# Altium footprint library Connectors Rectangular 2.54 C-Grid III.PcbLib: 13 footprints
Each footprint in its own frame and in the unit in brackets; x right, y up, seen from the top. Pads: shape width x height; smd on the part's side, far side on the other; paste and mask are expansions set on the pad; w line width, h text height; cw(c..) or ccw(c..) is an arc to the next point about the centre after c.
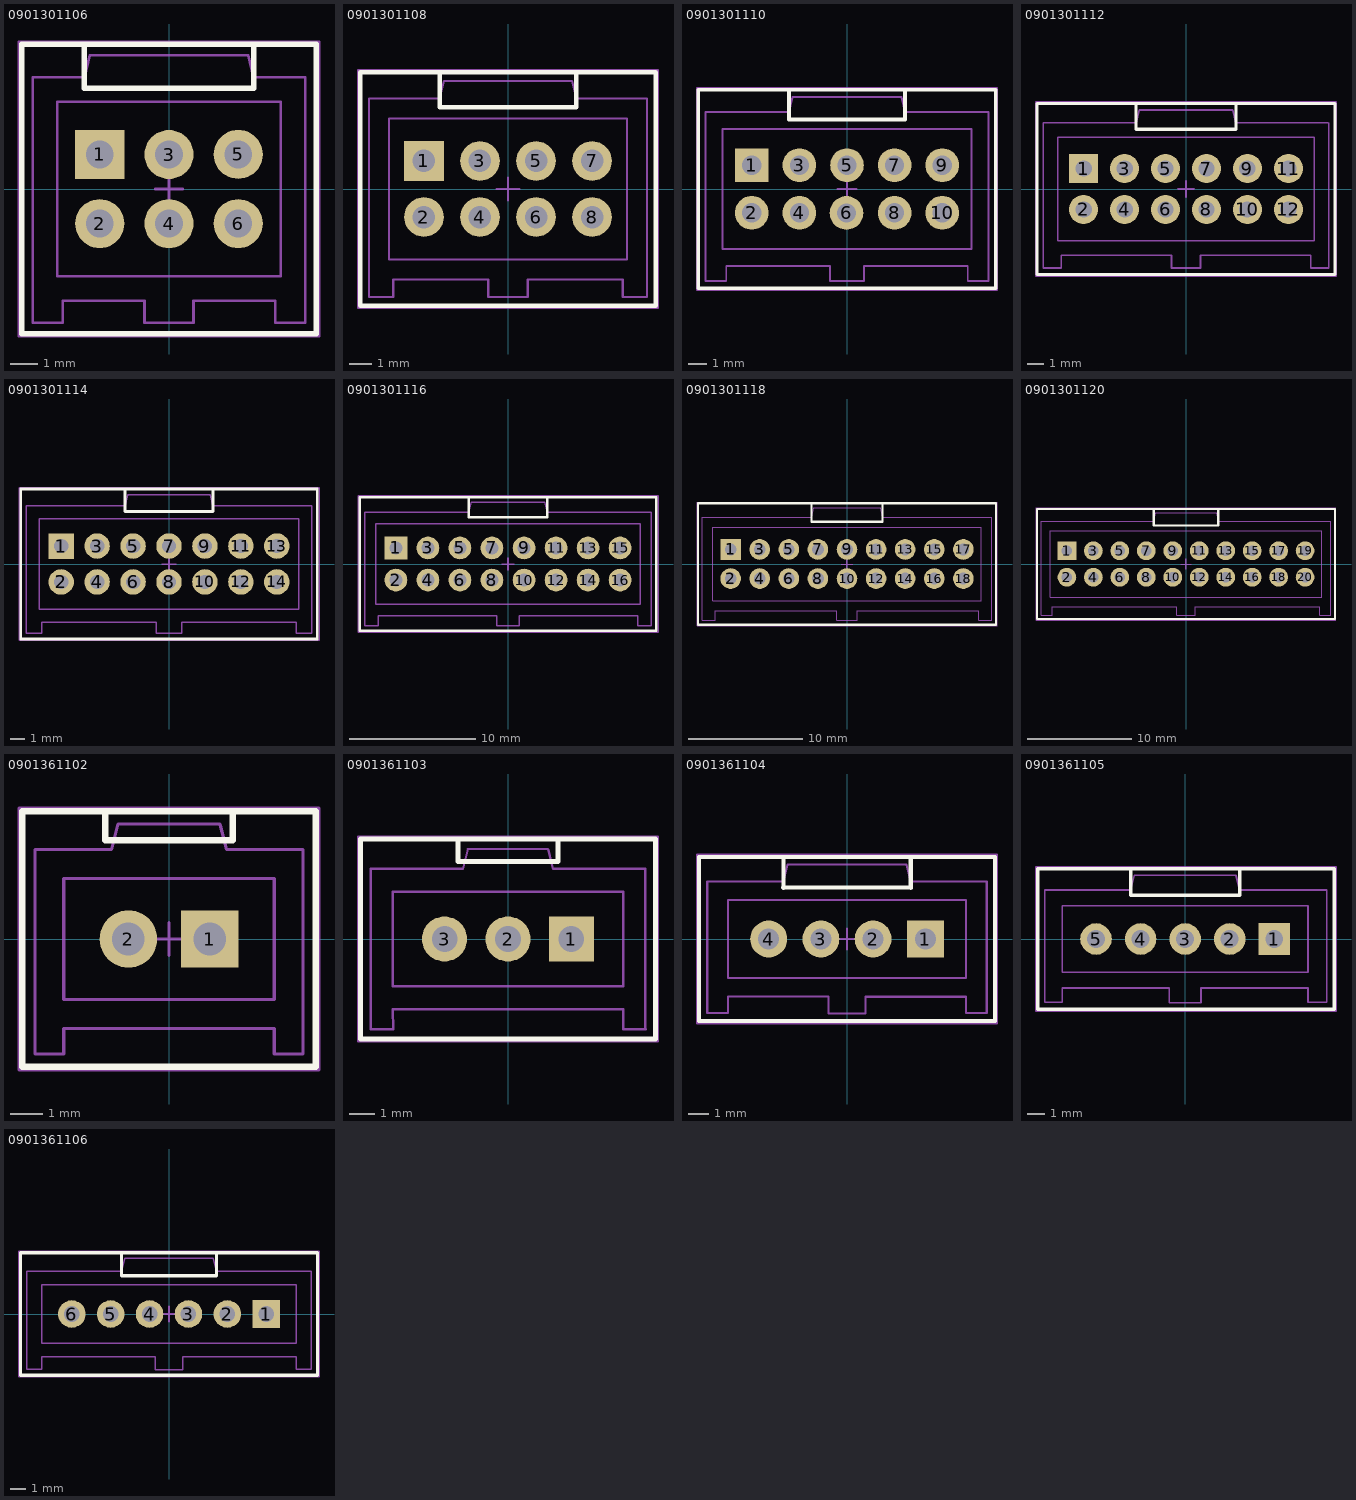
[diagram p0: the footprints below, top view; thin cyan lines are the x and y axes]

## 0901301106 [mm]
height 10.9
pads (6):
  rect 1.8x1.8 hole 1.02: 1(-2.54,1.27)
  round 1.8 hole 1.02: 2(-2.54,-1.27) 3(0,1.264) 4(0,-1.27) 5(2.54,1.27) 6(2.54,-1.27)
Top Overlay:
  lines w0.2: -3.1,5.3 -3.1,3.7 3.1,3.7 3.1,5.3 ; -5.4,-5.3 5.4,-5.3 5.4,5.3 -5.4,5.3 -5.4,-5.3
Top Package:
  circle w0.1: c0,-1.27 r0.4
  circle w0.1: c0,1.27 r0.4
  circle w0.1: c-2.54,-1.27 r0.4
  circle w0.1: c-2.54,1.27 r0.4
  circle w0.1: c2.54,1.27 r0.4
  circle w0.1: c2.54,-1.27 r0.4
  lines w0.1: -5,-4.9 -5,4.1 -3.1,4.1 -2.9,4.9 2.9,4.9 3.1,4.1 5,4.1 5,-4.9 3.9,-4.9 3.9,-4.1 0.9,-4.1 0.9,-4.9 -0.9,-4.9 -0.9,-4.1 -3.9,-4.1 -3.9,-4.9 -5,-4.9 ; -4.1,-3.2 4.1,-3.2 4.1,3.2 -4.1,3.2 -4.1,-3.2
Top Comment:
  text ".Comment" at -3.548,5.885 h2.5
Top Designator:
  text ".Designator" at -4.303,6.117 h2.5
Top Border:
  lines w0.1: -0.5,0 0.5,0 ; 0,-0.5 0,0.5 ; -5.5,-5.4 -5.5,5.4 5.5,5.4 5.5,-5.4 -5.5,-5.4 ; -0.508,0 0.508,0 -0.508,0 ; 0,-0.508 0,0.508 0,-0.508
3D body "901301106.stp": height 11, standoff -2.8, extent -4.98,-4.875 4.98,4.875

## 0901301108 [mm]
height 10.9
pads (8):
  rect 1.8x1.8 hole 1.02: 1(-3.81,1.27)
  round 1.8 hole 1.02: 2(-3.81,-1.27) 3(-1.27,1.27) 4(-1.27,-1.27) 5(1.27,1.27) 6(1.27,-1.27) 7(3.81,1.27) 8(3.81,-1.27)
Top Overlay:
  lines w0.2: -3.1,5.3 -3.1,3.7 3.1,3.7 3.1,5.3 ; -6.7,-5.3 6.7,-5.3 6.7,5.3 -6.7,5.3 -6.7,-5.3
Top Package:
  circle w0.1: c-1.27,-1.27 r0.4
  circle w0.1: c-1.27,1.27 r0.4
  circle w0.1: c-3.81,-1.27 r0.4
  circle w0.1: c1.27,1.27 r0.4
  circle w0.1: c1.27,-1.27 r0.4
  circle w0.1: c3.81,-1.27 r0.4
  circle w0.1: c3.81,1.27 r0.4
  circle w0.1: c-3.81,1.27 r0.4
  lines w0.1: -6.3,-4.9 -6.3,4.1 -3.1,4.1 -2.9,4.9 2.9,4.9 3.1,4.1 6.3,4.1 6.3,-4.9 5.2,-4.9 5.2,-4.1 0.9,-4.1 0.9,-4.9 -0.9,-4.9 -0.9,-4.1 -5.2,-4.1 -5.2,-4.9 -6.3,-4.9 ; -5.4,-3.2 5.4,-3.2 5.4,3.2 -5.4,3.2 -5.4,-3.2
Top Comment:
  text ".Comment" at -3.548,5.885 h2.5
Top Designator:
  text ".Designator" at -4.303,6.117 h2.5
Top Border:
  lines w0.1: -0.5,0 0.5,0 ; 0,-0.5 0,0.5 ; -6.8,-5.4 -6.8,5.4 6.8,5.4 6.8,-5.4 -6.8,-5.4 ; -0.508,0 0.508,0 -0.508,0 ; 0,-0.508 0,0.508 0,-0.508
3D body "901301108.stp": height 11, standoff -2.8, extent -6.25,-4.875 6.25,4.875

## 0901301110 [mm]
height 10.9
pads (10):
  rect 1.8x1.8 hole 1.02: 1(-5.08,1.27)
  round 1.8 hole 1.02: 2(-5.08,-1.27) 3(-2.54,1.27) 4(-2.54,-1.27) 5(0,1.27) 6(-0.026,-1.276) 7(2.54,1.27) 8(2.54,-1.27) 9(5.08,1.27) 10(5.08,-1.27)
Top Overlay:
  lines w0.2: -3.1,5.3 -3.1,3.7 3.1,3.7 3.1,5.3 ; 7.9,-5.3 -7.94,-5.3 -7.94,5.3 7.94,5.3 7.94,-5.3
Top Package:
  circle w0.1: c5.08,1.27 r0.4
  circle w0.1: c5.08,-1.27 r0.4
  circle w0.1: c2.54,-1.27 r0.4
  circle w0.1: c2.54,1.27 r0.4
  circle w0.1: c-2.54,1.27 r0.4
  circle w0.1: c-2.54,-1.27 r0.4
  circle w0.1: c0,1.27 r0.4
  circle w0.1: c0,-1.27 r0.4
  circle w0.1: c-5.08,-1.27 r0.4
  circle w0.1: c-5.08,1.27 r0.4
  lines w0.1: 7.5,4.1 3.1,4.1 2.9,4.9 -2.9,4.9 -3.1,4.1 -7.54,4.1 -7.54,-4.9 -6.44,-4.9 -6.44,-4.1 -0.9,-4.1 -0.9,-4.9 0.9,-4.9 0.9,-4.1 6.44,-4.1 6.44,-4.9 7.54,-4.9 7.54,4.1 ; -6.64,-3.2 -6.64,3.2 6.64,3.2 6.64,-3.2 -6.64,-3.2
Top Comment:
  text ".Comment" at -3.548,5.885 h2.5
Top Designator:
  text ".Designator" at -4.303,6.117 h2.5
Top Border:
  lines w0.1: -0.5,0 0.5,0 ; 0,-0.5 0,0.5 ; -8,-5.4 8,-5.4 8,5.4 -8,5.4 -8,-5.4 ; -0.508,0 0.508,0 -0.508,0 ; 0,-0.508 0,0.508 0,-0.508
3D body "901301110.stp": height 11, standoff -2.8, extent -7.52,-4.875 7.52,4.875

## 0901301112 [mm]
height 10.9
pads (12):
  rect 1.8x1.8 hole 1.02: 1(-6.35,1.27)
  round 1.8 hole 1.02: 2(-6.35,-1.27) 3(-3.81,1.27) 4(-3.81,-1.27) 5(-1.27,1.27) 6(-1.27,-1.27) 7(1.27,1.27) 8(1.27,-1.27) 9(3.81,1.27) 10(3.81,-1.27) 11(6.35,1.27) 12(6.35,-1.27)
Top Overlay:
  lines w0.2: -3.1,5.3 -3.1,3.7 3.1,3.7 3.1,5.3 ; -9.24,-5.3 -9.24,5.3 9.24,5.3 9.24,-5.3 -9.24,-5.3
Top Package:
  circle w0.1: c1.27,-1.27 r0.4
  circle w0.1: c1.27,1.27 r0.4
  circle w0.1: c-1.27,-1.27 r0.4
  circle w0.1: c-1.27,1.27 r0.4
  circle w0.1: c3.81,1.27 r0.4
  circle w0.1: c3.81,-1.27 r0.4
  circle w0.1: c6.35,-1.27 r0.4
  circle w0.1: c6.35,1.27 r0.4
  circle w0.1: c-6.35,-1.27 r0.4
  circle w0.1: c-6.35,1.27 r0.4
  circle w0.1: c-3.81,1.27 r0.4
  circle w0.1: c-3.81,-1.27 r0.4
  lines w0.1: -7.74,-4.1 -7.74,-4.9 -8.84,-4.9 -8.84,4.1 -3.1,4.1 -2.9,4.9 2.9,4.9 3.1,4.1 8.8,4.1 ; -7.7,-4.1 -0.9,-4.1 -0.9,-4.9 0.9,-4.9 0.9,-4.1 7.74,-4.1 7.74,-4.9 8.84,-4.9 8.84,4.1 ; -7.94,-3.2 -7.94,3.2 7.94,3.2 7.94,-3.2 -7.94,-3.2
Top Comment:
  text ".Comment" at -3.548,5.885 h2.5
Top Designator:
  text ".Designator" at -4.303,6.117 h2.5
Top Border:
  lines w0.1: -0.5,0 0.5,0 ; 0,-0.5 0,0.5 ; -9.3,-5.4 -9.3,5.4 9.3,5.4 9.3,-5.4 -9.3,-5.4 ; -0.508,0 0.508,0 -0.508,0 ; 0,-0.508 0,0.508 0,-0.508
3D body "901301112.stp": height 11, standoff -2.8, extent -8.79,-4.875 8.79,4.875

## 0901301114 [mm]
height 10.9
pads (14):
  rect 1.8x1.8 hole 1.02: 1(-7.62,1.27)
  round 1.8 hole 1.02: 2(-7.62,-1.27) 3(-5.08,1.27) 4(-5.08,-1.27) 5(-2.54,1.27) 6(-2.54,-1.27) 7(0,1.27) 8(0,-1.27) 9(2.54,1.27) 10(2.54,-1.27) 11(5.08,1.27) 12(5.08,-1.27) 13(7.62,1.27) 14(7.62,-1.27)
Top Overlay:
  lines w0.2: -3.1,5.3 -3.1,3.7 3.1,3.7 3.1,5.3 ; -10.48,-5.3 -10.48,5.3 10.48,5.3 10.48,-5.3 -10.48,-5.3
Top Package:
  circle w0.1: c-7.62,-1.27 r0.4
  circle w0.1: c-7.62,1.27 r0.4
  circle w0.1: c-5.08,1.27 r0.4
  circle w0.1: c-5.08,-1.27 r0.4
  circle w0.1: c0,-1.27 r0.4
  circle w0.1: c0,1.27 r0.4
  circle w0.1: c-2.54,-1.27 r0.4
  circle w0.1: c-2.54,1.27 r0.4
  circle w0.1: c2.54,1.27 r0.4
  circle w0.1: c2.54,-1.27 r0.4
  circle w0.1: c7.62,-1.27 r0.4
  circle w0.1: c7.62,1.27 r0.4
  circle w0.1: c5.08,-1.27 r0.4
  circle w0.1: c5.08,1.27 r0.4
  lines w0.1: -10.08,-4.9 -8.98,-4.9 -8.98,-4.1 -0.9,-4.1 -0.9,-4.9 0.9,-4.9 0.9,-4.1 8.98,-4.1 8.98,-4.9 10.08,-4.9 10.08,4.1 3.1,4.1 2.9,4.9 -2.9,4.9 -3.1,4.1 -10.08,4.1 -10.08,-4.9 ; -9.18,-3.2 -9.18,3.2 9.18,3.2 9.18,-3.2 -9.18,-3.2
Top Comment:
  text ".Comment" at -3.548,5.885 h2.5
Top Designator:
  text ".Designator" at -4.303,6.117 h2.5
Top Border:
  lines w0.1: -0.5,0 0.5,0 ; 0,-0.5 0,0.5 ; -10.6,-5.4 -10.6,5.4 10.6,5.4 10.6,-5.4 -10.6,-5.4 ; -0.508,0 0.508,0 -0.508,0 ; 0,-0.508 0,0.508 0,-0.508
3D body "901301114.stp": height 11, standoff -2.8, extent -10.06,-4.875 10.06,4.875

## 0901301116 [mm]
height 10.9
pads (16):
  rect 1.8x1.8 hole 1.02: 1(-8.89,1.27)
  round 1.8 hole 1.02: 2(-8.89,-1.27) 3(-6.35,1.27) 4(-6.35,-1.27) 5(-3.81,1.27) 6(-3.81,-1.27) 7(-1.27,1.27) 8(-1.27,-1.27) 9(1.27,1.27) 10(1.27,-1.27) 11(3.81,1.27) 12(3.81,-1.27) 13(6.35,1.27) 14(6.35,-1.27) 15(8.89,1.27) 16(8.89,-1.27)
Top Overlay:
  lines w0.2: -3.1,5.3 -3.1,3.7 3.1,3.7 3.1,5.3 ; -11.78,-5.3 11.78,-5.3 11.78,5.3 -11.78,5.3 -11.78,-5.3
Top Package:
  circle w0.1: c8.89,1.27 r0.4
  circle w0.1: c8.89,-1.27 r0.4
  circle w0.1: c-3.81,-1.27 r0.4
  circle w0.1: c-3.81,1.27 r0.4
  circle w0.1: c-8.89,1.27 r0.4
  circle w0.1: c-8.89,-1.27 r0.4
  circle w0.1: c-6.35,1.27 r0.4
  circle w0.1: c-6.35,-1.27 r0.4
  circle w0.1: c6.35,1.27 r0.4
  circle w0.1: c6.35,-1.27 r0.4
  circle w0.1: c3.81,-1.27 r0.4
  circle w0.1: c3.81,1.27 r0.4
  circle w0.1: c-1.27,1.27 r0.4
  circle w0.1: c-1.27,-1.27 r0.4
  circle w0.1: c1.27,1.27 r0.4
  circle w0.1: c1.27,-1.27 r0.4
  lines w0.1: -11.38,-4.9 -10.28,-4.9 -10.28,-4.1 -0.9,-4.1 -0.9,-4.9 0.9,-4.9 0.9,-4.1 10.28,-4.1 10.28,-4.9 11.38,-4.9 11.38,4.1 3.1,4.1 2.9,4.9 -2.9,4.9 -3.1,4.1 -11.38,4.1 -11.38,-4.9 ; -10.48,-3.2 10.48,-3.2 10.48,3.2 -10.48,3.2 -10.48,-3.2
Top Comment:
  text ".Comment" at -3.548,5.885 h2.5
Top Designator:
  text ".Designator" at -4.303,6.117 h2.5
Top Border:
  lines w0.1: -0.5,0 0.5,0 ; 0,-0.5 0,0.5 ; -11.9,-5.4 11.9,-5.4 11.9,5.4 -11.9,5.4 -11.9,-5.4 ; -0.508,0 0.508,0 -0.508,0 ; 0,-0.508 0,0.508 0,-0.508
3D body "901301116.stp": height 11, standoff -2.8, extent -11.33,-4.875 11.33,4.875

## 0901301118 [mm]
height 10.9
pads (18):
  rect 1.8x1.8 hole 1.02: 1(-10.16,1.27)
  round 1.8 hole 1.02: 2(-10.16,-1.27) 3(-7.62,1.27) 4(-7.62,-1.27) 5(-5.08,1.27) 6(-5.08,-1.27) 7(-2.54,1.27) 8(-2.54,-1.27) 9(0,1.27) 10(0,-1.27) 11(2.54,1.27) 12(2.54,-1.27) 13(5.08,1.27) 14(5.08,-1.27) 15(7.62,1.27) 16(7.62,-1.27) 17(10.16,1.27) 18(10.16,-1.27)
Top Overlay:
  lines w0.2: -13.02,-5.3 -13.02,5.3 ; -13,-5.3 13,-5.3 ; -13,5.3 13,5.3 ; -3.1,5.3 -3.1,3.7 3.1,3.7 3.1,5.3 ; 13.02,-5.3 13.02,5.3
Top Package:
  circle w0.1: c-7.62,-1.27 r0.4
  circle w0.1: c-7.62,1.27 r0.4
  circle w0.1: c-10.16,-1.27 r0.4
  circle w0.1: c-10.16,1.27 r0.4
  circle w0.1: c-5.08,1.27 r0.4
  circle w0.1: c-5.08,-1.27 r0.4
  circle w0.1: c0,-1.27 r0.4
  circle w0.1: c0,1.27 r0.4
  circle w0.1: c-2.54,-1.27 r0.4
  circle w0.1: c-2.54,1.27 r0.4
  circle w0.1: c2.54,1.27 r0.4
  circle w0.1: c2.54,-1.27 r0.4
  circle w0.1: c7.62,-1.27 r0.4
  circle w0.1: c7.62,1.27 r0.4
  circle w0.1: c5.08,-1.27 r0.4
  circle w0.1: c5.08,1.27 r0.4
  circle w0.1: c10.16,1.27 r0.4
  circle w0.1: c10.16,-1.27 r0.4
  lines w0.1: -11.72,3.2 -11.72,-3.2 11.72,-3.2 11.72,3.2 -11.7,3.2 ; -12.62,-4.9 -12.62,4.1 -3.1,4.1 -2.9,4.9 2.9,4.9 3.1,4.1 12.62,4.1 12.62,-4.9 11.52,-4.9 11.52,-4.1 0.9,-4.1 0.9,-4.9 -0.9,-4.9 -0.9,-4.1 -11.52,-4.1 -11.52,-4.9 -12.62,-4.9
Top Comment:
  text ".Comment" at -3.548,5.885 h2.5
Top Designator:
  text ".Designator" at -4.303,6.117 h2.5
Top Border:
  lines w0.1: -0.5,0 0.5,0 ; 0,-0.5 0,0.5 ; -13.1,-5.4 -13.1,5.4 13.1,5.4 13.1,-5.4 -13.1,-5.4 ; -0.508,0 0.508,0 -0.508,0 ; 0,-0.508 0,0.508 0,-0.508
3D body "901301118.stp": height 11, standoff -2.8, extent -12.6,-4.875 12.6,4.875

## 0901301120 [mm]
height 10.9
pads (20):
  rect 1.8x1.8 hole 1.02: 1(-11.43,1.27)
  round 1.8 hole 1.02: 2(-11.43,-1.27) 3(-8.89,1.27) 4(-8.89,-1.27) 5(-6.35,1.27) 6(-6.35,-1.27) 7(-3.81,1.27) 8(-3.81,-1.27) 9(-1.27,1.27) 10(-1.27,-1.27) 11(1.27,1.27) 12(1.27,-1.27) 13(3.81,1.27) 14(3.81,-1.27) 15(6.35,1.27) 16(6.35,-1.27) 17(8.89,1.27) 18(8.89,-1.27) 19(11.43,1.27) 20(11.43,-1.27)
Top Overlay:
  lines w0.2: -14.32,-5.3 -14.32,5.3 ; -14.3,-5.3 14.32,-5.3 14.32,5.3 ; -14.3,5.3 14.3,5.3 ; -3.1,5.3 -3.1,3.7 3.1,3.7 3.1,5.3
Top Package:
  circle w0.1: c11.43,-1.27 r0.4
  circle w0.1: c11.43,1.27 r0.4
  circle w0.1: c6.35,1.27 r0.4
  circle w0.1: c6.35,-1.27 r0.4
  circle w0.1: c8.89,1.27 r0.4
  circle w0.1: c8.89,-1.27 r0.4
  circle w0.1: c-6.35,-1.27 r0.4
  circle w0.1: c-6.35,1.27 r0.4
  circle w0.1: c-11.43,1.27 r0.4
  circle w0.1: c-11.43,-1.27 r0.4
  circle w0.1: c-8.89,1.27 r0.4
  circle w0.1: c-8.89,-1.27 r0.4
  circle w0.1: c3.81,1.27 r0.4
  circle w0.1: c3.81,-1.27 r0.4
  circle w0.1: c1.27,-1.27 r0.4
  circle w0.1: c1.27,1.27 r0.4
  circle w0.1: c-3.81,1.27 r0.4
  circle w0.1: c-3.81,-1.27 r0.4
  circle w0.1: c-1.27,1.27 r0.4
  circle w0.1: c-1.27,-1.27 r0.4
  lines w0.1: -13.92,-4.9 -13.92,4.1 -3.1,4.1 -2.9,4.9 2.9,4.9 3.1,4.1 13.92,4.1 13.92,-4.9 12.82,-4.9 12.82,-4.1 0.9,-4.1 0.9,-4.9 -0.9,-4.9 -0.9,-4.1 -12.82,-4.1 -12.82,-4.9 -13.92,-4.9 ; -13.02,-3.2 13.02,-3.2 13.02,3.2 -13.02,3.2 -13.02,-3.2
Top Comment:
  text ".Comment" at -3.548,5.885 h2.5
Top Designator:
  text ".Designator" at -4.303,6.117 h2.5
Top Border:
  lines w0.1: -0.5,0 0.5,0 ; 0,-0.5 0,0.5 ; -14.4,-5.4 14.4,-5.4 14.4,5.4 -14.4,5.4 -14.4,-5.4 ; -0.508,0 0.508,0 -0.508,0 ; 0,-0.508 0,0.508 0,-0.508
3D body "901301120.stp": height 11, standoff -2.8, extent -13.87,-4.875 13.87,4.875

## 0901361102 [mm]
height 10.9
pads (2):
  rect 1.8x1.8 hole 1.02: 1(1.27,0)
  round 1.8 hole 1.02: 2(-1.27,0)
Top Overlay:
  lines w0.2: -2,4 -2,3.1 2,3.1 2,4 ; -4.6,-4 4.6,-4 4.6,4 -4.6,4 -4.6,-4
Top Package:
  circle w0.1: c1.27,0 r0.4
  circle w0.1: c-1.27,0 r0.4
  lines w0.1: 1.6,3.6 -1.6,3.6 -1.8,2.8 -4.2,2.8 -4.2,-3.6 -3.3,-3.6 -3.3,-2.8 3.3,-2.8 3.3,-3.6 4.2,-3.6 4.2,2.8 1.8,2.8 1.606,3.576 ; -3.3,-1.9 -3.3,1.9 3.3,1.9 3.3,-1.9 -3.3,-1.9
Top Comment:
  text ".Comment" at -3.548,4.685 h2.5
Top Designator:
  text ".Designator" at -4.303,4.917 h2.5
Top Border:
  lines w0.1: -0.5,0 0.5,0 ; 0,-0.5 0,0.5 ; -4.7,-4.1 4.7,-4.1 4.7,4.1 -4.7,4.1 -4.7,-4.1 ; -0.508,0 0.508,0 -0.508,0 ; 0,-0.508 0,0.508 0,-0.508
3D body "901361102.stp": height 10.95, standoff -2.85, extent -4.215,-3.605 4.215,3.605

## 0901361103 [mm]
height 10.9
pads (3):
  rect 1.8x1.8 hole 1.02: 1(2.54,0)
  round 1.8 hole 1.02: 2(0,0) 3(-2.54,0)
Top Overlay:
  lines w0.2: -2,4 -2,3.1 2,3.1 2,4 ; -5.9,-4 5.9,-4 5.9,4 -5.9,4 -5.9,-4
Top Package:
  circle w0.1: c2.54,0 r0.4
  circle w0.1: c0,0 r0.4
  circle w0.1: c-2.54,0 r0.4
  lines w0.1: 1.6,3.6 -1.6,3.6 -1.8,2.8 -5.5,2.8 -5.5,-3.6 -4.6,-3.6 -4.6,-2.8 4.6,-2.8 ; 1.606,3.576 1.8,2.8 5.5,2.8 5.5,-3.6 ; 4.613,-2.811 4.613,-3.611 5.513,-3.611 ; -4.6,-1.9 -4.6,1.9 4.6,1.9 4.6,-1.9 -4.6,-1.9
Top Comment:
  text ".Comment" at -3.548,4.685 h2.5
Top Designator:
  text ".Designator" at -4.303,4.917 h2.5
Top Border:
  lines w0.1: -0.5,0 0.5,0 ; 0,-0.5 0,0.5 ; -6,-4.1 6,-4.1 6,4.1 -6,4.1 -6,-4.1 ; -0.508,0 0.508,0 -0.508,0 ; 0,-0.508 0,0.508 0,-0.508
3D body "901361103.stp": height 10.95, standoff -2.85, extent -5.485,-3.605 5.485,3.605

## 0901361104 [mm]
height 10.9
pads (4):
  rect 1.8x1.8 hole 1.02: 1(3.81,0)
  round 1.8 hole 1.02: 2(1.27,0) 3(-1.27,0) 4(-3.81,0)
Top Overlay:
  lines w0.2: -3.1,2.5 3.1,2.5 ; -3.099,2.49 -3.099,4 ; 3.101,2.49 3.101,4 ; -7.2,-4 7.2,-4 7.2,4 -7.2,4 -7.2,-4
Top Package:
  circle w0.1: c-3.81,0 r0.4
  circle w0.1: c-1.27,0 r0.4
  circle w0.1: c1.27,0 r0.4
  circle w0.1: c3.81,0 r0.4
  lines w0.1: -3.1,2.8 -6.8,2.8 -6.8,-3.6 -5.8,-3.6 -5.8,-2.8 -0.9,-2.8 ; -3.1,2.83 -2.9,3.63 2.9,3.63 3.1,2.83 ; -0.9,-2.83 -0.9,-3.63 0.9,-3.63 0.9,-2.83 ; 0.896,-2.811 5.796,-2.811 ; 3.1,2.8 6.8,2.8 6.8,-3.6 5.8,-3.6 5.8,-2.8 ; -5.8,-1.9 -5.8,1.9 5.8,1.9 5.8,-1.9 -5.8,-1.9
Top Comment:
  text ".Comment" at -3.548,4.685 h2.5
Top Designator:
  text ".Designator" at -4.303,4.917 h2.5
Top Border:
  lines w0.1: -0.5,0 0.5,0 ; 0,-0.5 0,0.5 ; -7.3,-4.1 7.3,-4.1 7.3,4.1 -7.3,4.1 -7.3,-4.1 ; -0.508,0 0.508,0 -0.508,0 ; 0,-0.508 0,0.508 0,-0.508
3D body "901361104.stp": height 10.95, standoff -2.85, extent -6.755,-3.605 6.755,3.605

## 0901361105 [mm]
height 10.9
pads (5):
  rect 1.8x1.8 hole 1.02: 1(5.08,0)
  round 1.8 hole 1.02: 2(2.54,0) 3(0,0) 4(-2.54,0) 5(-5.08,0)
Top Overlay:
  lines w0.2: -3.1,2.5 3.1,2.5 ; -3.099,2.49 -3.099,4 ; 3.101,2.49 3.101,4 ; -8.4,-4 8.5,-4 8.5,4 -8.4,4 -8.4,-4
Top Package:
  circle w0.1: c0,0 r0.4
  circle w0.1: c-2.54,0 r0.4
  circle w0.1: c-5.08,0 r0.4
  circle w0.1: c2.54,0 r0.4
  circle w0.1: c5.08,0 r0.4
  lines w0.1: -3.1,2.8 -8,2.8 -8,-3.6 -7,-3.6 -7,-2.8 -0.9,-2.8 -0.9,-3.63 0.9,-3.63 0.9,-2.83 ; -3.1,2.83 -2.9,3.63 2.9,3.63 3.1,2.83 ; 0.9,-2.8 7,-2.8 7,-3.6 8.07,-3.6 8.07,2.8 3.1,2.8 ; -7,-1.9 -7,1.9 7,1.9 7,-1.9 -7,-1.9
Top Comment:
  text ".Comment" at -3.548,4.685 h2.5
Top Designator:
  text ".Designator" at -4.303,4.917 h2.5
Top Border:
  lines w0.1: -0.5,0 0.5,0 ; 0,-0.5 0,0.5 ; -8.5,-4.1 8.6,-4.1 8.6,4.1 -8.5,4.1 -8.5,-4.1 ; -0.508,0 0.508,0 -0.508,0 ; 0,-0.508 0,0.508 0,-0.508
3D body "901361105.stp": height 10.95, standoff -2.85, extent -8.025,-3.605 8.025,3.605

## 0901361106 [mm]
height 10.9
pads (6):
  rect 1.8x1.8 hole 1.02: 1(6.35,0)
  round 1.8 hole 1.02: 2(3.81,0) 3(1.27,0) 4(-1.27,0) 5(-3.81,0) 6(-6.35,0)
Top Overlay:
  lines w0.2: -3.1,2.5 3.1,2.5 ; -3.099,2.49 -3.099,4 ; 3.101,2.49 3.101,4 ; -9.7,-4 9.7,-4 9.7,4 -9.7,4 -9.7,-4
Top Package:
  circle w0.1: c6.35,0 r0.4
  circle w0.1: c-6.35,0 r0.4
  circle w0.1: c-3.81,0 r0.4
  circle w0.1: c-1.27,0 r0.4
  circle w0.1: c1.27,0 r0.4
  circle w0.1: c3.81,0 r0.4
  lines w0.1: -3.1,2.8 -9.3,2.8 -9.3,-3.6 -8.3,-3.6 -8.3,-2.8 -0.9,-2.8 ; -3.1,2.83 -2.9,3.63 2.9,3.63 3.1,2.83 ; -0.9,-2.83 -0.9,-3.63 0.9,-3.63 0.9,-2.83 ; 0.9,-2.8 8.3,-2.8 8.3,-3.6 9.3,-3.6 9.3,2.8 3.1,2.8 ; -8.3,-1.9 8.3,-1.9 8.3,1.9 -8.3,1.9 -8.3,-1.9
Top Comment:
  text ".Comment" at -3.548,4.685 h2.5
Top Designator:
  text ".Designator" at -4.303,4.917 h2.5
Top Border:
  lines w0.1: -0.5,0 0.5,0 ; 0,-0.5 0,0.5 ; -9.8,-4.1 9.8,-4.1 9.8,4.1 -9.8,4.1 -9.8,-4.1 ; -0.508,0 0.508,0 -0.508,0 ; 0,-0.508 0,0.508 0,-0.508
3D body "901361106.stp": height 10.95, standoff -2.85, extent -9.295,-3.605 9.295,3.605